# EAGLE library part IC_PCA9306 (library akita)
NXP's PC9306, I2C level converter
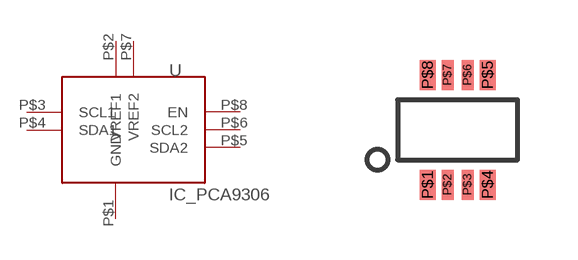
[diagram p153: symbol with the pads of VSSOP8; footprint VSSOP8]

Designator prefix U

## IC_PCA9306DC  [VSSOP8]
P$1  GND
P$2  VREF1
P$3  SCL1
P$4  SDA1
P$5  SDA2
P$6  SCL2
P$7  VREF2
P$8  EN

## Footprint VSSOP8 (pad centres in mm)
VSSOP8, e=0.5mm
smd 0.4 x 0.75: P$1 -0.75,-1.375; P$4 0.75,-1.375; P$5 0.75,1.375; P$8 -0.75,1.375
smd 0.3 x 0.75: P$2 -0.25,-1.375; P$3 0.25,-1.375; P$6 0.25,1.375; P$7 -0.25,1.375